# EAGLE library part PESC-02-40-02-01-X-VT (library CONN_Bricks-Distribution)
PESC Series .100 Inch PowerStrip /40 A Signal/Power Combo Socket Strip
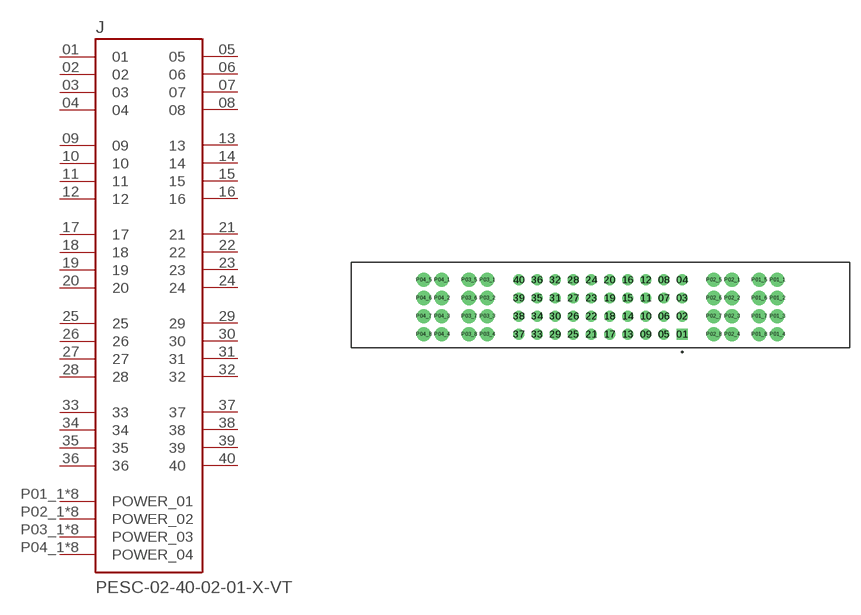
[diagram p0: symbol with the pads of SAMTEC_PESC-02-40-02-01-X-VT; footprint SAMTEC_PESC-02-40-02-01-X-VT]

Designator prefix J

## PESC-02-40-02-01-X-VT (MANUFACTURER: Samtec; MAXIMUM_PACKAGE_HEIGHT: 17.04 mm; PARTREV: B; STANDARD: Manufacturer Recommendations)  [SAMTEC_PESC-02-40-02-01-X-VT]
01  01  pas
02  02  pas
03  03  pas
04  04  pas
05  05  pas
06  06  pas
07  07  pas
08  08  pas
09  09  pas
10  10  pas
11  11  pas
12  12  pas
13  13  pas
14  14  pas
15  15  pas
16  16  pas
17  17  pas
18  18  pas
19  19  pas
20  20  pas
21  21  pas
22  22  pas
23  23  pas
24  24  pas
25  25  pas
26  26  pas
27  27  pas
28  28  pas
29  29  pas
30  30  pas
31  31  pas
32  32  pas
33  33  pas
34  34  pas
35  35  pas
36  36  pas
37  37  pas
38  38  pas
39  39  pas
40  40  pas
P01_1  POWER_01  pwr
P01_2  POWER_01  pwr
P01_3  POWER_01  pwr
P01_4  POWER_01  pwr
P01_5  POWER_01  pwr
P01_6  POWER_01  pwr
P01_7  POWER_01  pwr
P01_8  POWER_01  pwr
P02_1  POWER_02  pwr
P02_2  POWER_02  pwr
P02_3  POWER_02  pwr
P02_4  POWER_02  pwr
P02_5  POWER_02  pwr
P02_6  POWER_02  pwr
P02_7  POWER_02  pwr
P02_8  POWER_02  pwr
P03_1  POWER_03  pwr
P03_2  POWER_03  pwr
P03_3  POWER_03  pwr
P03_4  POWER_03  pwr
P03_5  POWER_03  pwr
P03_6  POWER_03  pwr
P03_7  POWER_03  pwr
P03_8  POWER_03  pwr
P04_1  POWER_04  pwr
P04_2  POWER_04  pwr
P04_3  POWER_04  pwr
P04_4  POWER_04  pwr
P04_5  POWER_04  pwr
P04_6  POWER_04  pwr
P04_7  POWER_04  pwr
P04_8  POWER_04  pwr

## Footprint SAMTEC_PESC-02-40-02-01-X-VT (pad centres in mm)
drill 1.02 pad 1.52 square: 01 11.43,-3.81
drill 1.02 pad 1.52: 02 11.43,-1.27; 03 11.43,1.27; 04 11.43,3.81; 05 8.89,-3.81; 06 8.89,-1.27; 07 8.89,1.27; 08 8.89,3.81; 09 6.35,-3.81; 10 6.35,-1.27; 11 6.35,1.27; 12 6.35,3.81; 13 3.81,-3.81; 14 3.81,-1.27; 15 3.81,1.27; 16 3.81,3.81; 17 1.27,-3.81; 18 1.27,-1.27; 19 1.27,1.27; 20 1.27,3.81; 21 -1.27,-3.81; 22 -1.27,-1.27; 23 -1.27,1.27; 24 -1.27,3.81; 25 -3.81,-3.81; 26 -3.81,-1.27; 27 -3.81,1.27; 28 -3.81,3.81; 29 -6.35,-3.81; 30 -6.35,-1.27; 31 -6.35,1.27; 32 -6.35,3.81; 33 -8.89,-3.81; 34 -8.89,-1.27; 35 -8.89,1.27; 36 -8.89,3.81; 37 -11.43,-3.81; 38 -11.43,-1.27; 39 -11.43,1.27; 40 -11.43,3.81
drill 1.32 pad 1.98: P01_1 24.765,3.81; P01_2 24.765,1.27; P01_3 24.765,-1.27; P01_4 24.765,-3.81; P01_5 22.225,3.81; P01_6 22.225,1.27; P01_7 22.225,-1.27; P01_8 22.225,-3.81; P02_1 18.415,3.81; P02_2 18.415,1.27; P02_3 18.415,-1.27; P02_4 18.415,-3.81; P02_5 15.875,3.81; P02_6 15.875,1.27; P02_7 15.875,-1.27; P02_8 15.875,-3.81; P03_1 -15.875,3.81; P03_2 -15.875,1.27; P03_3 -15.875,-1.27; P03_4 -15.875,-3.81; P03_5 -18.415,3.81; P03_6 -18.415,1.27; P03_7 -18.415,-1.27; P03_8 -18.415,-3.81; P04_1 -22.225,3.81; P04_2 -22.225,1.27; P04_3 -22.225,-1.27; P04_4 -22.225,-3.81; P04_5 -24.765,3.81; P04_6 -24.765,1.27; P04_7 -24.765,-1.27; P04_8 -24.765,-3.81